# Altium integrated library TVS Diode 5V.IntLib: 1 symbol
Pins are listed as number, name and electrical type; pins without a type are passive.

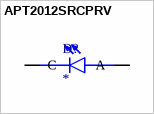
[diagram p0: symbol APT2012SRCPRV]

## APT2012SRCPRV
designator D?
Red 640nm LED Indication - Discrete 1.85V 0805 (2012 Metric); MF: Kingbright; MP: APT2012SRCPRV; SnapEDA_Link: https://www.snapeda.com/parts/APT2012SRCPRV/Kingbright/view-part/?ref=snap; Package: 0805 Kingbright; Value: *; Check_prices: https://www.snapeda.com/parts/APT2012SRCPRV/Kingbright/view-part/?ref=eda
footprint LEDC2012X75N
pins: A, C